# EAGLE library part XL1509 (library mylib)
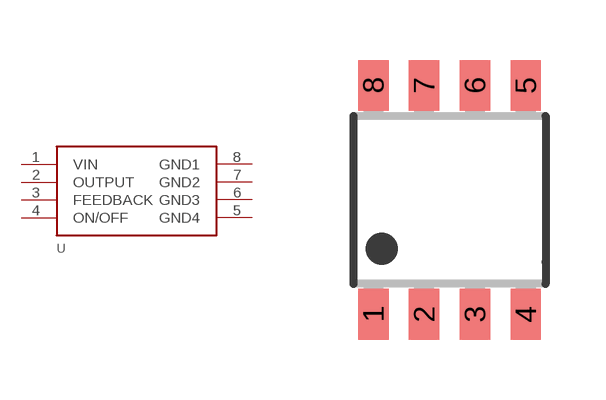
[diagram p3: symbol with the pads of SOP8; footprint SOP8]

Designator prefix -

## XL1509  [SOP8]
1  VIN
2  OUTPUT
3  FEEDBACK
4  ON/OFF
5  GND4
6  GND3
7  GND2
8  GND1

## Footprint SOP8 (pad centres in mm)
Small Outline Package 8 8P2S-A Plastic 8pin 225mil SOP Source: Mitsubishi M5218AL/P/FP
smd 0.76 x 1.27: 1 -1.905,-2.86; 2 -0.635,-2.86; 3 0.635,-2.86; 4 1.905,-2.86; 5 1.905,2.86; 6 0.635,2.86; 7 -0.635,2.86; 8 -1.905,2.86